# EAGLE library part JP6Q (library jumper_single_pad)
JUMPER
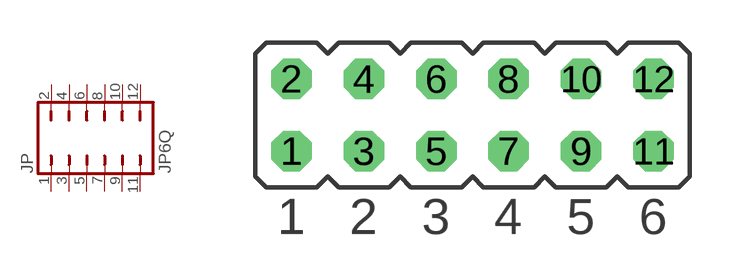
[diagram p11: symbol with the pads of JP6Q; footprint JP6Q]

Designator prefix JP

## JP6Q  [JP6Q]
1  1  pas
2  2  pas
3  3  pas
4  4  pas
5  5  pas
6  6  pas
7  7  pas
8  8  pas
9  9  pas
10  10  pas
11  11  pas
12  12  pas

## Footprint JP6Q (pad centres in mm)
JUMPER
drill 0.914 octagon: 1 -6.35,-1.27; 2 -6.35,1.27; 3 -3.81,-1.27; 4 -3.81,1.27; 5 -1.27,-1.27; 6 -1.27,1.27; 7 1.27,-1.27; 8 1.27,1.27; 9 3.81,-1.27; 10 3.81,1.27; 11 6.35,-1.27; 12 6.35,1.27